# Altium schematic symbol library Nanolog.SchLib: 1 symbol
Pins are listed as number, name and electrical type; pins without a type are passive.

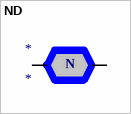
[diagram p0: symbol ND]

## ND
designator *
pins: 1 5, 2 6
text: N